# Altium footprint library DIOAD1990W125L900D530.PcbLib: 1 footprints
Each footprint in its own frame and in the unit in brackets; x right, y up, seen from the top. Pads: shape width x height; smd on the part's side, far side on the other; paste and mask are expansions set on the pad; w line width, h text height; cw(c..) or ccw(c..) is an arc to the next point about the centre after c.
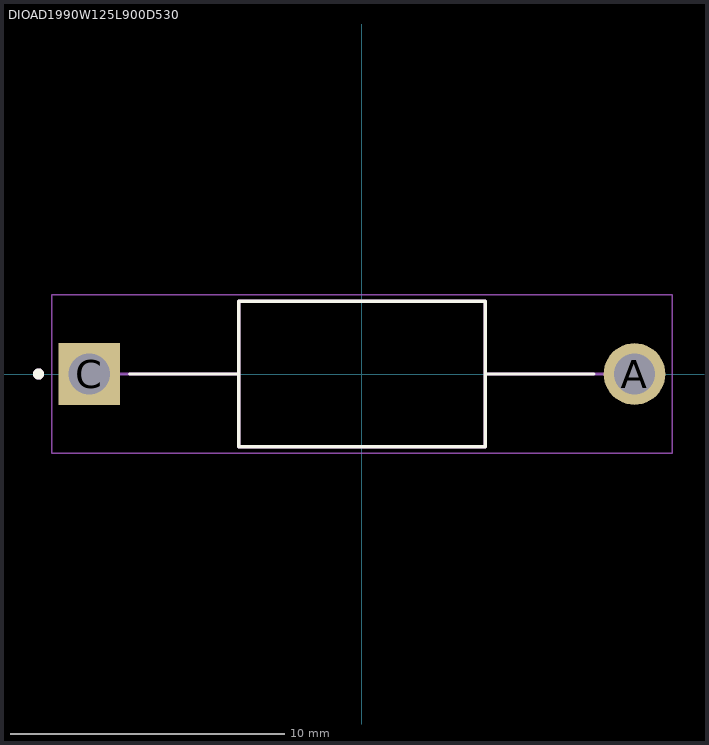
[diagram p0: the footprint, top view; thin cyan lines are the x and y axes]

## DIOAD1990W125L900D530 [mm]
height 5.6
pads (2):
  round 2.25 hole 1.5 mask+0.102: A(9.95,0)
  rect 2.25x2.25 / inner round 2.25 / far side rect 2.25x2.25 hole 1.5 mask+0.102: C(-9.95,0)
Top Overlay:
  circle w0.2: c-11.8,0 r0.1
  lines w0.127: -8.47,0 -4.5,0 ; 8.47,0 4.5,0 ; -4.5,0 -4.5,2.65 4.5,2.65 4.5,0 ; -4.5,0 -4.5,-2.65 4.5,-2.65 4.5,0
Assembly Top:
  circle w0.2: c-11.8,0 r0.1
  lines w0.127: -9.95,0 -4.5,0 ; 9.95,0 4.5,0 ; -4.5,0 -4.5,2.65 4.5,2.65 4.5,0 ; -4.5,0 -4.5,-2.65 4.5,-2.65 4.5,0
Courtyard Top:
  lines w0.05: -11.325,-2.9 -11.325,2.9 11.325,2.9 11.325,-2.9 -11.325,-2.9